# Altium schematic symbol library Diodes_Triacs.SchLib: 29 symbols
Pins are listed as number, name and electrical type; pins without a type are passive.

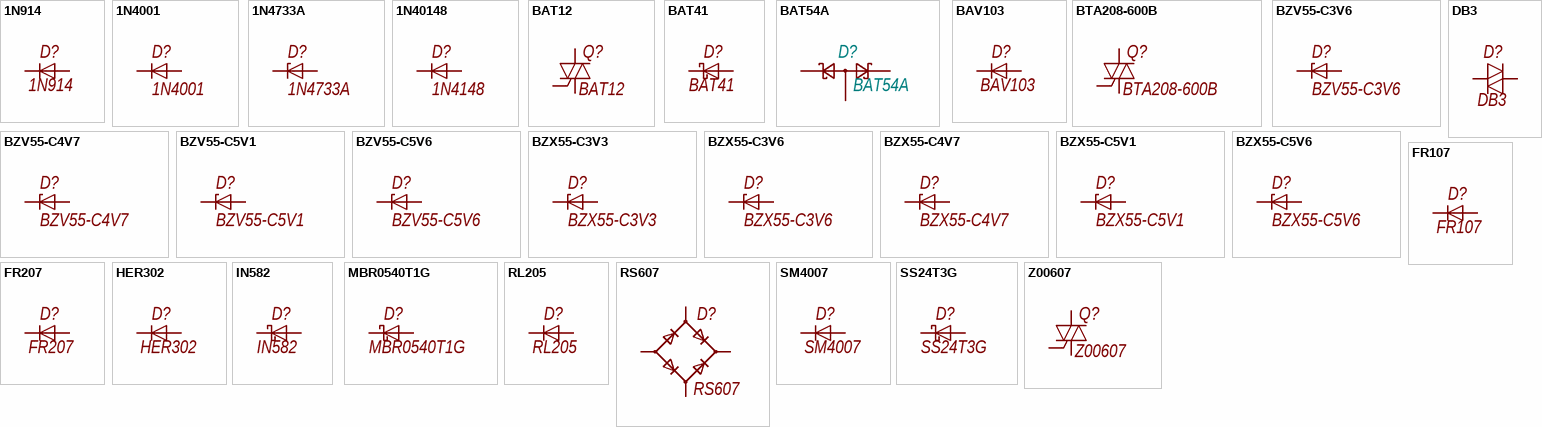
[diagram p0: symbols 1N914 to Z00607]

## 1N914
designator D?
100V 0.15A standard switching diode, DO-35; Model: 1N914
footprint DO-35(5.08)
pins: A, C

## 1N4001
designator D?
50V 1A General Purpose Rectifier Diode; Model: 1N4001
footprint DO-41(10.0)
pins: A, C

## 1N4733A
designator D?
1300mW Zener Diode, DO-41; Model: 1N4733A
footprint DO-41(10.0)
pins: A, C

## 1N40148
designator D?, comment 1N4148
100V 0.2A Switching Diode; Model: 1N4148
footprint DO-35(5.08)
footprint SOD-123
pins: A, C

## BAT12
designator Q?
12 A Snubberless™, logic level and standard Triacs; Model: BAT12
footprint TO-220
pins: 1, 2, 3

## BAT41
designator D?
60V 15mA Schottky diode, DO-35; Model: BAT41
footprint DO-35(5.08)
pins: A, C

## BAT54A
designator D?
Small Signal Schottky Diodes Dual; Model: BAT54A
footprint SOT-23
pins: 1, 2, 3

## BAV103
designator D?
Small Signal Switching Diodes, High Voltage; Model: BAV103
footprint SOD-80
pins: A, C

## BTA208-600B
designator Q?
3Q Hi-Com Triac, 600V; Model: BTA208-600B
footprint TO-220
pins: 1, 2, 3

## BZV55-C3V6
designator D?
Voltage regulator diodes Working voltage VZ (V) - 3.6; Model: BZV55-C3V6
footprint SOD-80
pins: A, C

## BZV55-C4V7
designator D?
Voltage regulator diodes Working voltage VZ (V) - 4.7; Model: BZV55-C4V7
footprint SOD-80
pins: A, C

## BZV55-C5V1
designator D?
Voltage regulator diodes Working voltage VZ (V) - 5.1; Model: BZV55-C5V1
footprint SOD-80
pins: A, C

## BZV55-C5V6
designator D?
Voltage regulator diodes Working voltage VZ (V) - 5.6; Model: BZV55-C5V6
footprint SOD-80
pins: A, C

## BZX55-C3V3
designator D?
Voltage regulator diodes Working voltage VZ (V) - 3.3; Model: BZX55-C3V3
footprint DO-35(5.08)
footprint DO-35(7.62)
pins: A, C

## BZX55-C3V6
designator D?
Voltage regulator diodes Working voltage VZ (V) - 3.6; Model: BZX55-C3V6
footprint DO-35(5.08)
footprint DO-35(7.62)
pins: A, C

## BZX55-C4V7
designator D?
Voltage regulator diodes Working voltage VZ (V) - 4.7; Model: BZX55-C4V7
footprint DO-35(5.08)
footprint DO-35(7.62)
pins: A, C

## BZX55-C5V1
designator D?
Voltage regulator diodes Working voltage VZ (V) - 5.1; Model: BZX55-C5V1
footprint DO-35(5.08)
footprint DO-35(7.62)
pins: A, C

## BZX55-C5V6
designator D?
Voltage regulator diodes Working voltage VZ (V) - 5.6; Model: BZX55-C5V6
footprint DO-35(5.08)
footprint DO-35(7.62)
pins: A, C

## DB3
designator D?
Diac/Sidac Thyristor 30 ~ 34V DO-35; Model: DB3
footprint DO-35(5.08)
footprint DO-35(7.62)
pins: A 2, C 1

## FR107
designator D?
1.0A FAST RECOVERY RECTIFIER; Model: FR107
footprint DO-41(10.0)
pins: A, C

## FR207
designator D?
2.0A FAST RECOVERY DIODE 1000V; Model: FR207
footprint DO-15(12.6)
pins: A, C

## HER302
designator D?
HIGH EFFICIENCY RECTIFIER; Model: HER302
footprint DO-201(15.24)
pins: A, C

## IN582
designator D?
SCHOTTKY BARRIER RECTIFIERS 3.0 AMPERES 30V; Model: IN582
footprint DO-201(15.24)
pins: A, C

## MBR0540T1G
designator D?
Small Signal Schottky Diodes; Model: MBR0540T1G
footprint SOD-123
pins: A, C

## RL205
designator D?
2 Amp Silicon Rectifier 50 to 1000 Volts; Model: RL205
footprint DO-15(12.6)
pins: A, C

## RS607
designator D?
SINGLE PHASE 6.0 AMP BRIDGE RECTIFIERS; Model: RS607
footprint RS-6
pins: 1, 2, 3, 4

## SM4007
designator D?
Standard Recovery SMD Rectifier Diodes; Model: SM4007
footprint DO-213
pins: A, C

## SS24T3G
designator D?
Schottky Power Rectifier; Model: SS24T3G
footprint SMB
pins: A, C

## Z00607
designator Q?
0.8A TRIAC; Model: Z00607
footprint TO-92; pin to pad 2>3 3>2
footprint SOT-223
pins: 1, 2, 3